# EAGLE library part 87760-14 (library untitled)
HEADER
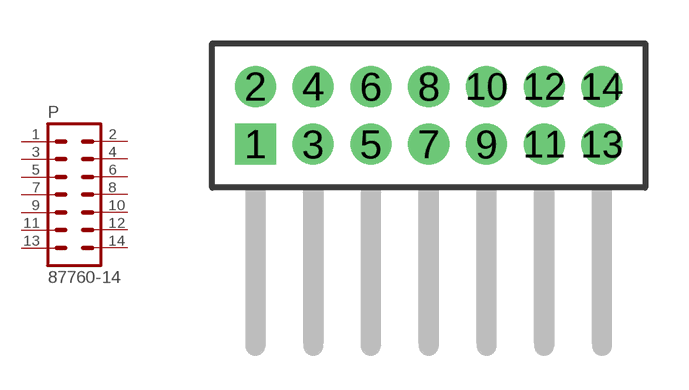
[diagram p41: symbol with the pads of 87760-14; footprint 87760-14]

Designator prefix P

## 87760-14  [87760-14]
1  1  pas
2  2  pas
3  3  pas
4  4  pas
5  5  pas
6  6  pas
7  7  pas
8  8  pas
9  9  pas
10  10  pas
11  11  pas
12  12  pas
13  13  pas
14  14  pas

## Footprint 87760-14 (pad centres in mm)
HEADER Dual Row, Right Angle
drill 0.914 square: 1 -6,-1
drill 0.914 round: 2 -6,1; 3 -4,-1; 4 -4,1; 5 -2,-1; 6 -2,1; 7 0,-1; 8 0,1; 9 2,-1; 10 2,1; 11 4,-1; 12 4,1; 13 6,-1; 14 6,1